# Altium footprint library LGA-16.PcbLib: 1 footprints
Each footprint in its own frame and in the unit in brackets; x right, y up, seen from the top. Pads: shape width x height; smd on the part's side, far side on the other; paste and mask are expansions set on the pad; w line width, h text height; cw(c..) or ccw(c..) is an arc to the next point about the centre after c.
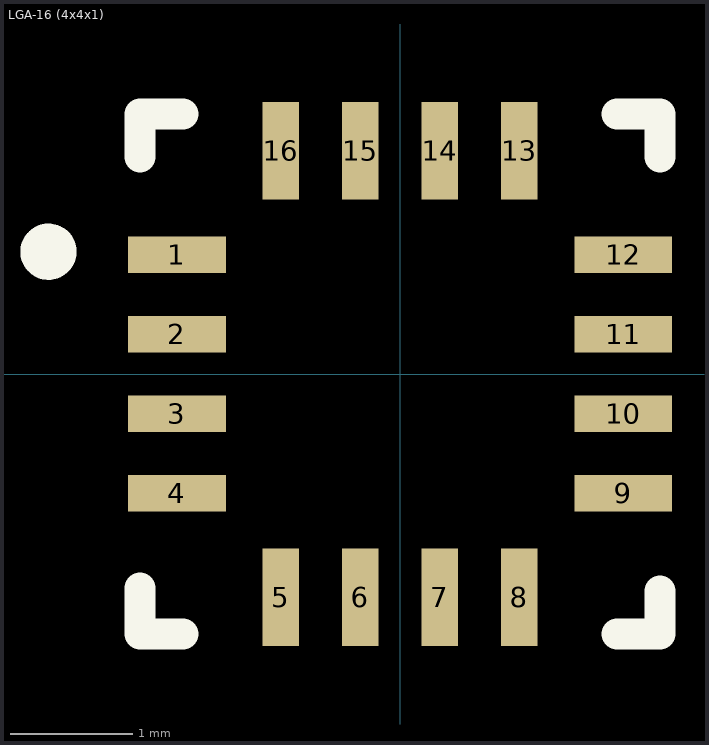
[diagram p0: the footprint, top view; thin cyan lines are the x and y axes]

## LGA-16 (4x4x1) [mm] "Land Grid Array Package"
height 1
pads (16):
  rect 0.8x0.3 smd: 1(-1.825,0.975) 2(-1.825,0.325) 3(-1.825,-0.325) 4(-1.825,-0.975) 9(1.825,-0.975) 10(1.825,-0.325) 11(1.825,0.325) 12(1.825,0.975)
  rect 0.3x0.8 smd: 5(-0.975,-1.825) 6(-0.325,-1.825) 7(0.325,-1.825) 8(0.975,-1.825) 13(0.975,1.825) 14(0.325,1.825) 15(-0.325,1.825) 16(-0.975,1.825)
Top Overlay:
  circle w0.254: c-2.875,1 r0.103
  lines w0.254: -2.125,1.775 -2.125,2.125 -1.775,2.125 ; -1.775,-2.125 -2.125,-2.125 -2.125,-1.75 ; 1.775,2.125 2.125,2.125 ; 2.125,-1.775 2.125,-2.125 1.775,-2.125 ; 2.125,1.775 2.125,2.125 ; -2.125,-1.75 -2.125,-1.75 ; 1.775,-2.125 1.775,-2.125 ; 2.125,2.125 2.125,2.125
3D body "User Library-LGA-16.step": height 0.98, standoff 0, extent -2,-2 2,2